# Altium schematic symbol library VE471M1ETR-1010.Schlib: 1 symbol
Pins are listed as number, name and electrical type; pins without a type are passive.

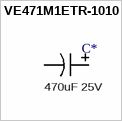
[diagram p0: symbol VE471M1ETR-1010]

## VE471M1ETR-1010
designator C*  value 470uF 25V  (hidden comment: *)
470uF ±20% 25V SMD,10x10mm Aluminum Electrolytic Capacitors - SMD RoHS; ComponentLink1Description: LCSC - Lelon VE471M1ETR-1010; ComponentLink1URL: https://lcsc.com/product-detail/Others_Lelon-VE-471M1E1010-TR0_C249931.html/?href=jlc-SMT; LCSC Part #: C249931; JLCPCB Part Type: Extended
footprint CAPAE1030X1050N
pins: 1, 2